# Altium integrated library WE-HCM_rev15b.intlib: 37 symbols
Pins are listed as number, name and electrical type; pins without a type are passive.

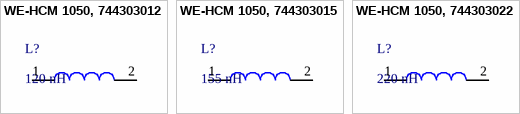
[diagram p0: symbols WE-HCM 1050, 744303012 to WE-HCM 1050, 744303022]

## WE-HCM 1050, 744303012
designator L?, comment 120 nH
WE-HCM SMD High Current Flat Wire Inductor, Inductance = 120 nH; partNo: 744303012; Manufacturer: Wurth Elektronik; Inductance: 120 nH; ComponentLink1Description: Manufacturer; ComponentLink1URL: http://www.we-online.de; Created by: Baojun Chen; Created Date: Nov.2015; ComponentLink2Description: Datasheet; ComponentLink2URL: http://katalog.we-online.de/pbs/datasheet/744303012.pdf
footprint WE-HCM 1050
pins: 1, 2

## WE-HCM 1050, 744303015
designator L?, comment 155 nH
WE-HCM SMD High Current Flat Wire Inductor, Inductance = 155 nH; partNo: 744303015; Manufacturer: Wurth Elektronik; Inductance: 155 nH; ComponentLink1Description: Manufacturer; ComponentLink1URL: http://www.we-online.de; Created by: Baojun Chen; Created Date: Nov.2015; ComponentLink2Description: Datasheet; ComponentLink2URL: http://katalog.we-online.de/pbs/datasheet/744303015.pdf
footprint WE-HCM 1050
pins: 1, 2

## WE-HCM 1050, 744303022
designator L?, comment 220 nH
WE-HCM SMD High Current Flat Wire Inductor, Inductance = 220 nH; partNo: 744303022; Manufacturer: Wurth Elektronik; Inductance: 220 nH; ComponentLink1Description: Manufacturer; ComponentLink1URL: http://www.we-online.de; Created by: Baojun Chen; Created Date: Nov.2015; ComponentLink2Description: Datasheet; ComponentLink2URL: http://katalog.we-online.de/pbs/datasheet/744303022.pdf
footprint WE-HCM 1050
pins: 1, 2


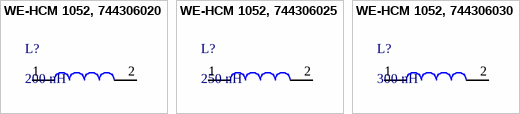
[diagram p1: symbols WE-HCM 1052, 744306020 to WE-HCM 1052, 744306030]

## WE-HCM 1052, 744306020
designator L?, comment 200 nH
WE-HCM SMD High Current Flat Wire Inductor, Inductance = 200 nH; partNo: 744306020; Manufacturer: Wurth Elektronik; Inductance: 200 nH; ComponentLink1Description: Manufacturer; ComponentLink1URL: http://www.we-online.de; Created by: Baojun Chen; Created Date: Nov.2015; ComponentLink2Description: Datasheet; ComponentLink2URL: http://katalog.we-online.de/pbs/datasheet/744306020.pdf
footprint WE-HCM 1052
pins: 1, 2

## WE-HCM 1052, 744306025
designator L?, comment 250 nH
WE-HCM SMD High Current Flat Wire Inductor, Inductance = 250 nH; partNo: 744306025; Manufacturer: Wurth Elektronik; Inductance: 250 nH; ComponentLink1Description: Manufacturer; ComponentLink1URL: http://www.we-online.de; Created by: Baojun Chen; Created Date: Nov.2015; ComponentLink2Description: Datasheet; ComponentLink2URL: http://katalog.we-online.de/pbs/datasheet/744306025.pdf
footprint WE-HCM 1052
pins: 1, 2

## WE-HCM 1052, 744306030
designator L?, comment 300 nH
WE-HCM SMD High Current Flat Wire Inductor, Inductance = 300 nH; partNo: 744306030; Manufacturer: Wurth Elektronik; Inductance: 300 nH; ComponentLink1Description: Manufacturer; ComponentLink1URL: http://www.we-online.de; Created by: Baojun Chen; Created Date: Nov.2015; ComponentLink2Description: Datasheet; ComponentLink2URL: http://katalog.we-online.de/pbs/datasheet/744306030.pdf
footprint WE-HCM 1052
pins: 1, 2


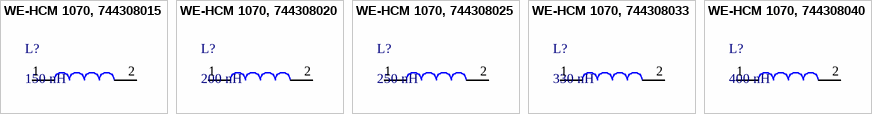
[diagram p2: symbols WE-HCM 1070, 744308015 to WE-HCM 1070, 744308040]

## WE-HCM 1070, 744308015
designator L?, comment 150 nH
WE-HCM SMD High Current Flat Wire Inductor, Inductance = 150 nH; partNo: 744308015; Manufacturer: Wurth Elektronik; Inductance: 150 nH; ComponentLink1Description: Manufacturer; ComponentLink1URL: http://www.we-online.de; Created by: Baojun Chen; Created Date: Nov.2015; ComponentLink2Description: Datasheet; ComponentLink2URL: http://katalog.we-online.de/pbs/datasheet/744308015.pdf
footprint WE-HCM 1070
pins: 1, 2

## WE-HCM 1070, 744308020
designator L?, comment 200 nH
WE-HCM SMD High Current Flat Wire Inductor, Inductance = 200 nH; partNo: 744308020; Manufacturer: Wurth Elektronik; Inductance: 200 nH; ComponentLink1Description: Manufacturer; ComponentLink1URL: http://www.we-online.de; Created by: Baojun Chen; Created Date: Nov.2015; ComponentLink2Description: Datasheet; ComponentLink2URL: http://katalog.we-online.de/pbs/datasheet/744308020.pdf
footprint WE-HCM 1070
pins: 1, 2

## WE-HCM 1070, 744308025
designator L?, comment 250 nH
WE-HCM SMD High Current Flat Wire Inductor, Inductance = 250 nH; partNo: 744308025; Manufacturer: Wurth Elektronik; Inductance: 250 nH; ComponentLink1Description: Manufacturer; ComponentLink1URL: http://www.we-online.de; Created by: Baojun Chen; Created Date: Nov.2015; ComponentLink2Description: Datasheet; ComponentLink2URL: http://katalog.we-online.de/pbs/datasheet/744308025.pdf
footprint WE-HCM 1070
pins: 1, 2

## WE-HCM 1070, 744308033
designator L?, comment 330 nH
WE-HCM SMD High Current Flat Wire Inductor, Inductance = 330 nH; partNo: 744308033; Manufacturer: Wurth Elektronik; Inductance: 330 nH; ComponentLink1Description: Manufacturer; ComponentLink1URL: http://www.we-online.de; Created by: Baojun Chen; Created Date: Nov.2015; ComponentLink2Description: Datasheet; ComponentLink2URL: http://katalog.we-online.de/pbs/datasheet/744308033.pdf
footprint WE-HCM 1070
pins: 1, 2

## WE-HCM 1070, 744308040
designator L?, comment 400 nH
WE-HCM SMD High Current Flat Wire Inductor, Inductance = 400 nH; partNo: 744308040; Manufacturer: Wurth Elektronik; Inductance: 400 nH; ComponentLink1Description: Manufacturer; ComponentLink1URL: http://www.we-online.de; Created by: Baojun Chen; Created Date: Nov.2015; ComponentLink2Description: Datasheet; ComponentLink2URL: http://katalog.we-online.de/pbs/datasheet/744308040.pdf
footprint WE-HCM 1070
pins: 1, 2


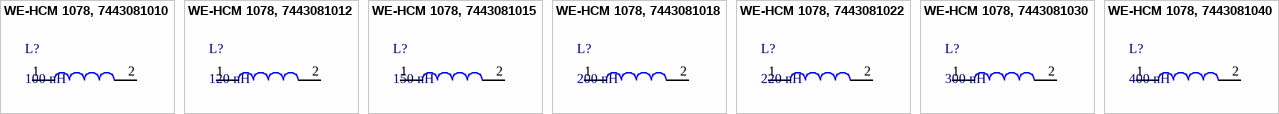
[diagram p3: symbols WE-HCM 1078, 7443081010 to WE-HCM 1078, 7443081040]

## WE-HCM 1078, 7443081010
designator L?, comment 100 nH
WE-HCM SMD High Current Flat Wire Inductor, Inductance = 100 nH; partNo: 7443081010; Manufacturer: Wurth Elektronik; Inductance: 100 nH; ComponentLink1Description: Manufacturer; ComponentLink1URL: http://www.we-online.de; Created by: Baojun Chen; Created Date: Nov.2015; ComponentLink2Description: Datasheet; ComponentLink2URL: http://katalog.we-online.de/pbs/datasheet/7443081010.pdf
footprint WE-HCM 1078
pins: 1, 2

## WE-HCM 1078, 7443081012
designator L?, comment 120 nH
WE-HCM SMD High Current Flat Wire Inductor, Inductance = 120 nH; partNo: 7443081012; Manufacturer: Wurth Elektronik; Inductance: 120 nH; ComponentLink1Description: Manufacturer; ComponentLink1URL: http://www.we-online.de; Created by: Baojun Chen; Created Date: Nov.2015; ComponentLink2Description: Datasheet; ComponentLink2URL: http://katalog.we-online.de/pbs/datasheet/7443081012.pdf
footprint WE-HCM 1078
pins: 1, 2

## WE-HCM 1078, 7443081015
designator L?, comment 150 nH
WE-HCM SMD High Current Flat Wire Inductor, Inductance = 150 nH; partNo: 7443081015; Manufacturer: Wurth Elektronik; Inductance: 150 nH; ComponentLink1Description: Manufacturer; ComponentLink1URL: http://www.we-online.de; Created by: Baojun Chen; Created Date: Nov.2015; ComponentLink2Description: Datasheet; ComponentLink2URL: http://katalog.we-online.de/pbs/datasheet/7443081015.pdf
footprint WE-HCM 1078
pins: 1, 2

## WE-HCM 1078, 7443081018
designator L?, comment 200 nH
WE-HCM SMD High Current Flat Wire Inductor, Inductance = 200 nH; partNo: 7443081018; Manufacturer: Wurth Elektronik; Inductance: 200 nH; ComponentLink1Description: Manufacturer; ComponentLink1URL: http://www.we-online.de; Created by: Baojun Chen; Created Date: Nov.2015; ComponentLink2Description: Datasheet; ComponentLink2URL: http://katalog.we-online.de/pbs/datasheet/7443081018.pdf
footprint WE-HCM 1078
pins: 1, 2

## WE-HCM 1078, 7443081022
designator L?, comment 220 nH
WE-HCM SMD High Current Flat Wire Inductor, Inductance = 220 nH; partNo: 7443081022; Manufacturer: Wurth Elektronik; Inductance: 220 nH; ComponentLink1Description: Manufacturer; ComponentLink1URL: http://www.we-online.de; Created by: Baojun Chen; Created Date: Nov.2015; ComponentLink2Description: Datasheet; ComponentLink2URL: http://katalog.we-online.de/pbs/datasheet/7443081022.pdf
footprint WE-HCM 1078
pins: 1, 2

## WE-HCM 1078, 7443081030
designator L?, comment 300 nH
WE-HCM SMD High Current Flat Wire Inductor, Inductance = 300 nH; partNo: 7443081030; Manufacturer: Wurth Elektronik; Inductance: 300 nH; ComponentLink1Description: Manufacturer; ComponentLink1URL: http://www.we-online.de; Created by: Baojun Chen; Created Date: Nov.2015; ComponentLink2Description: Datasheet; ComponentLink2URL: http://katalog.we-online.de/pbs/datasheet/7443081030.pdf
footprint WE-HCM 1078
pins: 1, 2

## WE-HCM 1078, 7443081040
designator L?, comment 400 nH
WE-HCM SMD High Current Flat Wire Inductor, Inductance = 400 nH; partNo: 7443081040; Manufacturer: Wurth Elektronik; Inductance: 400 nH; ComponentLink1Description: Manufacturer; ComponentLink1URL: http://www.we-online.de; Created by: Baojun Chen; Created Date: Nov.2015; ComponentLink2Description: Datasheet; ComponentLink2URL: http://katalog.we-online.de/pbs/datasheet/7443081040.pdf
footprint WE-HCM 1078
pins: 1, 2


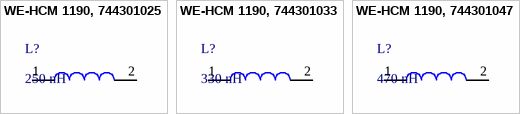
[diagram p4: symbols WE-HCM 1190, 744301025 to WE-HCM 1190, 744301047]

## WE-HCM 1190, 744301025
designator L?, comment 250 nH
WE-HCM SMD High Current Flat Wire Inductor, Inductance = 250 nH; partNo: 744301025; Manufacturer: Wurth Elektronik; Inductance: 250 nH; ComponentLink1Description: Manufacturer; ComponentLink1URL: http://www.we-online.de; Created by: Baojun Chen; Created Date: Nov.2015; ComponentLink2Description: Datasheet; ComponentLink2URL: http://katalog.we-online.de/pbs/datasheet/744301025.pdf
footprint WE-HCM 1190
pins: 1, 2

## WE-HCM 1190, 744301033
designator L?, comment 330 nH
WE-HCM SMD High Current Flat Wire Inductor, Inductance = 330 nH; partNo: 744301033; Manufacturer: Wurth Elektronik; Inductance: 330 nH; ComponentLink1Description: Manufacturer; ComponentLink1URL: http://www.we-online.de; Created by: Baojun Chen; Created Date: Nov.2015; ComponentLink2Description: Datasheet; ComponentLink2URL: http://katalog.we-online.de/pbs/datasheet/744301033.pdf
footprint WE-HCM 1190
pins: 1, 2

## WE-HCM 1190, 744301047
designator L?, comment 470 nH
WE-HCM SMD High Current Flat Wire Inductor, Inductance = 470 nH; partNo: 744301047; Manufacturer: Wurth Elektronik; Inductance: 470 nH; ComponentLink1Description: Manufacturer; ComponentLink1URL: http://www.we-online.de; Created by: Baojun Chen; Created Date: Nov.2015; ComponentLink2Description: Datasheet; ComponentLink2URL: http://katalog.we-online.de/pbs/datasheet/744301047.pdf
footprint WE-HCM 1190
pins: 1, 2


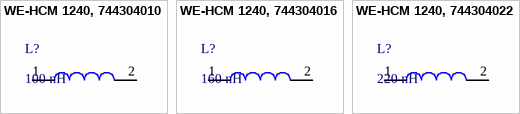
[diagram p5: symbols WE-HCM 1240, 744304010 to WE-HCM 1240, 744304022]

## WE-HCM 1240, 744304010
designator L?, comment 100 nH
WE-HCM SMD High Current Flat Wire Inductor, Inductance = 100 nH; partNo: 744304010; Manufacturer: Wurth Elektronik; Inductance: 100 nH; ComponentLink1Description: Manufacturer; ComponentLink1URL: http://www.we-online.de; Created by: Baojun Chen; Created Date: Nov.2015; ComponentLink2Description: Datasheet; ComponentLink2URL: http://katalog.we-online.de/pbs/datasheet/744304010.pdf
footprint WE-HCM 1240
pins: 1, 2

## WE-HCM 1240, 744304016
designator L?, comment 160 nH
WE-HCM SMD High Current Flat Wire Inductor, Inductance = 160 nH; partNo: 744304016; Manufacturer: Wurth Elektronik; Inductance: 160 nH; ComponentLink1Description: Manufacturer; ComponentLink1URL: http://www.we-online.de; Created by: Baojun Chen; Created Date: Nov.2015; ComponentLink2Description: Datasheet; ComponentLink2URL: http://katalog.we-online.de/pbs/datasheet/744304016.pdf
footprint WE-HCM 1240
pins: 1, 2

## WE-HCM 1240, 744304022
designator L?, comment 220 nH
WE-HCM SMD High Current Flat Wire Inductor, Inductance = 220 nH; partNo: 744304022; Manufacturer: Wurth Elektronik; Inductance: 220 nH; ComponentLink1Description: Manufacturer; ComponentLink1URL: http://www.we-online.de; Created by: Baojun Chen; Created Date: Nov.2015; ComponentLink2Description: Datasheet; ComponentLink2URL: http://katalog.we-online.de/pbs/datasheet/744304022.pdf
footprint WE-HCM 1240
pins: 1, 2


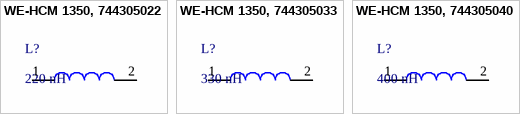
[diagram p6: symbols WE-HCM 1350, 744305022 to WE-HCM 1350, 744305040]

## WE-HCM 1350, 744305022
designator L?, comment 220 nH
WE-HCM SMD High Current Flat Wire Inductor, Inductance = 220 nH; partNo: 744305022; Manufacturer: Wurth Elektronik; Inductance: 220 nH; ComponentLink1Description: Manufacturer; ComponentLink1URL: http://www.we-online.de; Created by: Baojun Chen; Created Date: Nov.2015; ComponentLink2Description: Datasheet; ComponentLink2URL: http://katalog.we-online.de/pbs/datasheet/744305022.pdf
footprint WE-HCM 1350
pins: 1, 2

## WE-HCM 1350, 744305033
designator L?, comment 330 nH
WE-HCM SMD High Current Flat Wire Inductor, Inductance = 330 nH; partNo: 744305033; Manufacturer: Wurth Elektronik; Inductance: 330 nH; ComponentLink1Description: Manufacturer; ComponentLink1URL: http://www.we-online.de; Created by: Baojun Chen; Created Date: Nov.2015; ComponentLink2Description: Datasheet; ComponentLink2URL: http://katalog.we-online.de/pbs/datasheet/744305033.pdf
footprint WE-HCM 1350
pins: 1, 2

## WE-HCM 1350, 744305040
designator L?, comment 400 nH
WE-HCM SMD High Current Flat Wire Inductor, Inductance = 400 nH; partNo: 744305040; Manufacturer: Wurth Elektronik; Inductance: 400 nH; ComponentLink1Description: Manufacturer; ComponentLink1URL: http://www.we-online.de; Created by: Baojun Chen; Created Date: Nov.2015; ComponentLink2Description: Datasheet; ComponentLink2URL: http://katalog.we-online.de/pbs/datasheet/744305040.pdf
footprint WE-HCM 1350
pins: 1, 2


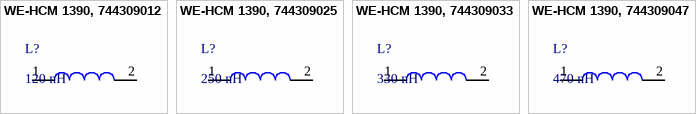
[diagram p7: symbols WE-HCM 1390, 744309012 to WE-HCM 1390, 744309047]

## WE-HCM 1390, 744309012
designator L?, comment 120 nH
WE-HCM SMD High Current Flat Wire Inductor, Inductance = 120 nH; partNo: 744309012; Manufacturer: Wurth Elektronik; Inductance: 120 nH; ComponentLink1Description: Manufacturer; ComponentLink1URL: http://www.we-online.de; Created by: Baojun Chen; Created Date: Nov.2015; ComponentLink2Description: Datasheet; ComponentLink2URL: http://katalog.we-online.de/pbs/datasheet/744309012.pdf
footprint WE-HCM 1390
pins: 1, 2

## WE-HCM 1390, 744309025
designator L?, comment 250 nH
WE-HCM SMD High Current Flat Wire Inductor, Inductance = 250 nH; partNo: 744309025; Manufacturer: Wurth Elektronik; Inductance: 250 nH; ComponentLink1Description: Manufacturer; ComponentLink1URL: http://www.we-online.de; Created by: Baojun Chen; Created Date: Nov.2015; ComponentLink2Description: Datasheet; ComponentLink2URL: http://katalog.we-online.de/pbs/datasheet/744309025.pdf
footprint WE-HCM 1390
pins: 1, 2

## WE-HCM 1390, 744309033
designator L?, comment 330 nH
WE-HCM SMD High Current Flat Wire Inductor, Inductance = 330 nH; partNo: 744309033; Manufacturer: Wurth Elektronik; Inductance: 330 nH; ComponentLink1Description: Manufacturer; ComponentLink1URL: http://www.we-online.de; Created by: Baojun Chen; Created Date: Nov.2015; ComponentLink2Description: Datasheet; ComponentLink2URL: http://katalog.we-online.de/pbs/datasheet/744309033.pdf
footprint WE-HCM 1390
pins: 1, 2

## WE-HCM 1390, 744309047
designator L?, comment 470 nH
WE-HCM SMD High Current Flat Wire Inductor, Inductance = 470 nH; partNo: 744309047; Manufacturer: Wurth Elektronik; Inductance: 470 nH; ComponentLink1Description: Manufacturer; ComponentLink1URL: http://www.we-online.de; Created by: Baojun Chen; Created Date: Nov.2015; ComponentLink2Description: Datasheet; ComponentLink2URL: http://katalog.we-online.de/pbs/datasheet/744309047.pdf
footprint WE-HCM 1390
pins: 1, 2


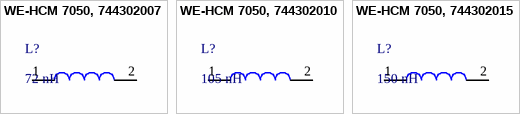
[diagram p8: symbols WE-HCM 7050, 744302007 to WE-HCM 7050, 744302015]

## WE-HCM 7050, 744302007
designator L?, comment 72 nH
WE-HCM SMD High Current Flat Wire Inductor, Inductance = 72 nH; partNo: 744302007; Manufacturer: Wurth Elektronik; Inductance: 72 nH; ComponentLink1Description: Manufacturer; ComponentLink1URL: http://www.we-online.de; Created by: Baojun Chen; Created Date: Nov.2015; ComponentLink2Description: Datasheet; ComponentLink2URL: http://katalog.we-online.de/pbs/datasheet/744302007.pdf
footprint WE-HCM 7050
pins: 1, 2

## WE-HCM 7050, 744302010
designator L?, comment 105 nH
WE-HCM SMD High Current Flat Wire Inductor, Inductance = 105 nH; partNo: 744302010; Manufacturer: Wurth Elektronik; Inductance: 105 nH; ComponentLink1Description: Manufacturer; ComponentLink1URL: http://www.we-online.de; Created by: Baojun Chen; Created Date: Nov.2015; ComponentLink2Description: Datasheet; ComponentLink2URL: http://katalog.we-online.de/pbs/datasheet/744302010.pdf
footprint WE-HCM 7050
pins: 1, 2

## WE-HCM 7050, 744302015
designator L?, comment 150 nH
WE-HCM SMD High Current Flat Wire Inductor, Inductance = 150 nH; partNo: 744302015; Manufacturer: Wurth Elektronik; Inductance: 150 nH; ComponentLink1Description: Manufacturer; ComponentLink1URL: http://www.we-online.de; Created by: Baojun Chen; Created Date: Nov.2015; ComponentLink2Description: Datasheet; ComponentLink2URL: http://katalog.we-online.de/pbs/datasheet/744302015.pdf
footprint WE-HCM 7050
pins: 1, 2


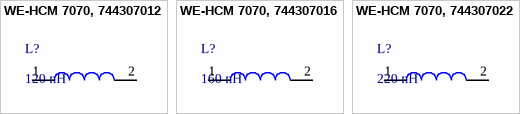
[diagram p9: symbols WE-HCM 7070, 744307012 to WE-HCM 7070, 744307022]

## WE-HCM 7070, 744307012
designator L?, comment 120 nH
WE-HCM SMD High Current Flat Wire Inductor, Inductance = 120 nH; partNo: 744307012; Manufacturer: Wurth Elektronik; Inductance: 120 nH; ComponentLink1Description: Manufacturer; ComponentLink1URL: http://www.we-online.de; Created by: Baojun Chen; Created Date: Nov.2015; ComponentLink2Description: Datasheet; ComponentLink2URL: http://katalog.we-online.de/pbs/datasheet/744307012.pdf
footprint WE-HCM 7070
pins: 1, 2

## WE-HCM 7070, 744307016
designator L?, comment 160 nH
WE-HCM SMD High Current Flat Wire Inductor, Inductance = 160 nH; partNo: 744307016; Manufacturer: Wurth Elektronik; Inductance: 160 nH; ComponentLink1Description: Manufacturer; ComponentLink1URL: http://www.we-online.de; Created by: Baojun Chen; Created Date: Nov.2015; ComponentLink2Description: Datasheet; ComponentLink2URL: http://katalog.we-online.de/pbs/datasheet/744307016.pdf
footprint WE-HCM 7070
pins: 1, 2

## WE-HCM 7070, 744307022
designator L?, comment 220 nH
WE-HCM SMD High Current Flat Wire Inductor, Inductance = 220 nH; partNo: 744307022; Manufacturer: Wurth Elektronik; Inductance: 220 nH; ComponentLink1Description: Manufacturer; ComponentLink1URL: http://www.we-online.de; Created by: Baojun Chen; Created Date: Nov.2015; ComponentLink2Description: Datasheet; ComponentLink2URL: http://katalog.we-online.de/pbs/datasheet/744307022.pdf
footprint WE-HCM 7070
pins: 1, 2